# EAGLE library part REZZONICS_TPS562209 (library DMFX-1_v1.0)
TPS56x209 4.5V to 17 V Input, 2-A, 3-A Synchronous Step-Down Voltage Regulator in 6 pin SOT-23
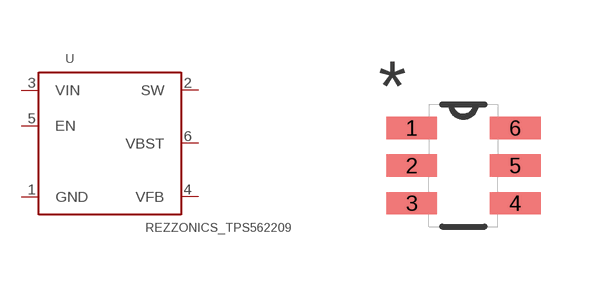
[diagram p17: symbol with the pads of REZZONICS_SOT95P280X145-6N; footprint REZZONICS_SOT95P280X145-6N]

Designator prefix U

## REZZONICS_TPS562209SO  [REZZONICS_SOT95P280X145-6N]
1  GND  pwr
2  SW  out
3  VIN  pwr
4  VFB  in
5  EN  in
6  VBST  pas

## Footprint REZZONICS_SOT95P280X145-6N (pad centres in mm)
smd 1.27 x 0.559: 1 -1.295,0.94; 2 -1.295,0; 3 -1.295,-0.94; 4 1.295,-0.94; 5 1.295,0; 6 1.295,0.94